# EAGLE library part FS312F-G (library FS312F-G)
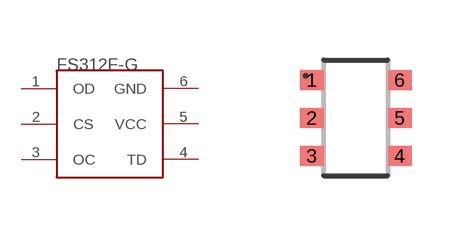
[diagram p0: symbol with the pads of SOT-23-6; footprint SOT-23-6]

Designator prefix -

## FS312F-G  [SOT-23-6]
1  OD
2  CS
3  OC
4  TD
5  VCC
6  GND

## Footprint SOT-23-6 (pad centres in mm)
smd 0.6 x 0.5: 1 -1.1,0.95; 2 -1.1,0; 3 -1.1,-0.95; 4 1.1,-0.95; 5 1.1,0; 6 1.1,0.95